# Altium schematic symbol library tas5720atdaprq1.SchLib: 1 symbol
Pins are listed as number, name and electrical type; pins without a type are passive.

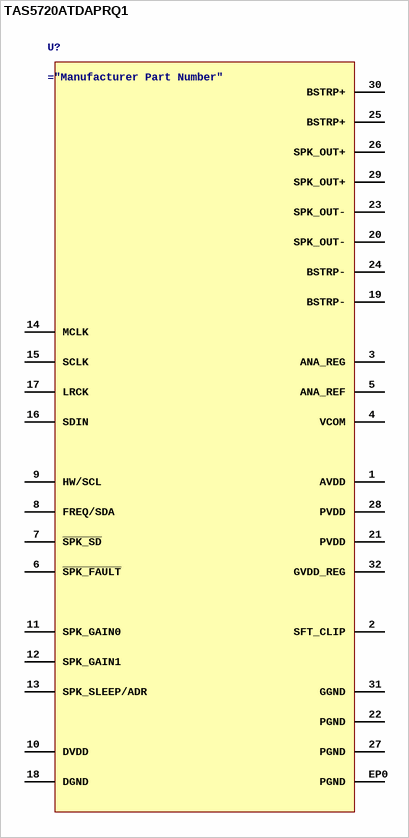
[diagram p0: symbol TAS5720ATDAPRQ1]

## TAS5720ATDAPRQ1
designator U?
Amplifier IC 1-Channel (Mono) Class D 32-HTSSOP
pins: 1 AVDD, 2 SFT_CLIP, 3 ANA_REG, 4 VCOM, 5 ANA_REF, 6 ~{SPK_FAULT}, 7 ~{SPK_SD}, 8 FREQ/SDA, 9 HW/SCL, 10 DVDD, 11 SPK_GAIN0, 12 SPK_GAIN1, 13 SPK_SLEEP/ADR, 14 MCLK, 15 SCLK, 16 SDIN, 17 LRCK, 18 DGND, 19 BSTRP-, 20 SPK_OUT-, 21 PVDD, 22 PGND, 23 SPK_OUT-, 24 BSTRP-, 25 BSTRP+, 26 SPK_OUT+, 27 PGND, 28 PVDD, 29 SPK_OUT+, 30 BSTRP+, 31 GGND, 32 GVDD_REG, EP0 PGND